# EAGLE library part ULN2001* (library parts)
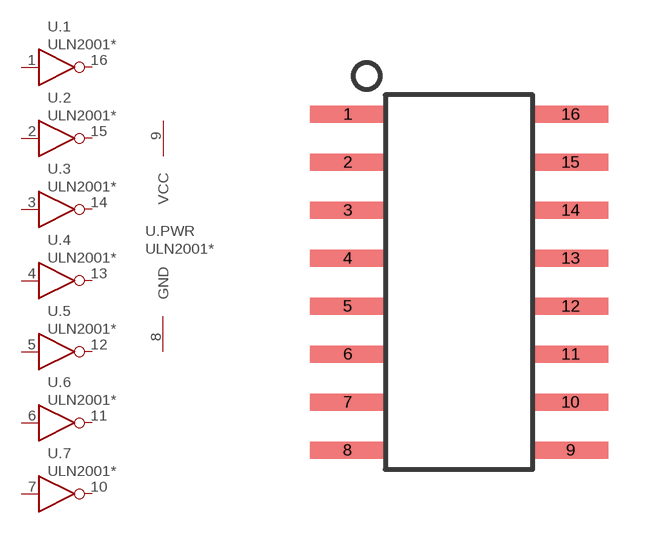
[diagram p8: symbol with the pads of SOIC-16; footprint SOIC-16]

Designator prefix U; gates .1=INV .2=INV .3=INV .4=INV .5=INV .6=INV .7=INV .PWR=PWR-GND

## ULN2001D  [SOIC-16]
1  .1:I  in
2  .2:I  in
3  .3:I  in
4  .4:I  in
5  .5:I  in
6  .6:I  in
7  .7:I  in
8  .PWR:GND  pwr
9  .PWR:VCC  pwr
10  .7:O  oc
11  .6:O  oc
12  .5:O  oc
13  .4:O  oc
14  .3:O  oc
15  .2:O  oc
16  .1:O  oc

## Footprint SOIC-16 (pad centres in mm)
smd 2 x 0.45: 1 -2.95,4.445; 2 -2.95,3.175; 3 -2.95,1.905; 4 -2.95,0.635; 5 -2.95,-0.635; 6 -2.95,-1.905; 7 -2.95,-3.175; 8 -2.95,-4.445; 9 2.95,-4.445; 10 2.95,-3.175; 11 2.95,-1.905; 12 2.95,-0.635; 13 2.95,0.635; 14 2.95,1.905; 15 2.95,3.175; 16 2.95,4.445